# EAGLE library part MC11 (library con-phoenix-381_l)
Mini-Combicon 3.81mm horizontal 11-polig (ohne Gegenstecker)
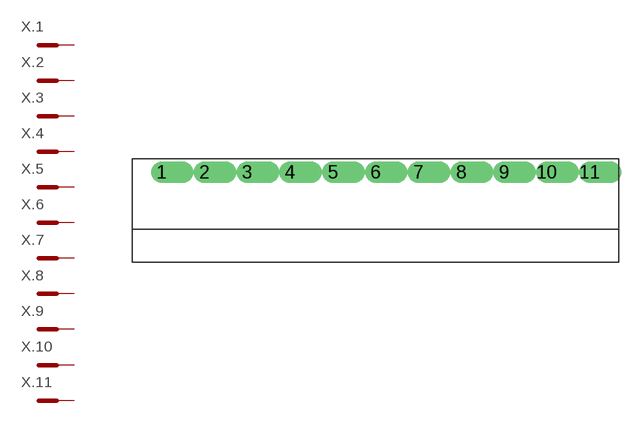
[diagram p8: symbol with the pads of MC11; footprint MC11]

Designator prefix X; gates .1=MCST .2=MCST .3=MCST .4=MCST .5=MCST .6=MCST .7=MCST .8=MCST .9=MCST .10=MCST .11=MCST

## MC11  [MC11]
1  .1:SK  pas
2  .2:SK  pas
3  .3:SK  pas
4  .4:SK  pas
5  .5:SK  pas
6  .6:SK  pas
7  .7:SK  pas
8  .8:SK  pas
9  .9:SK  pas
10  .10:SK  pas
11  .11:SK  pas

## Footprint MC11 (pad centres in mm)
Mini-Combicon 3.81mm horizontal 11-polig (ohne Gegenstecker)
drill 1.27 offset: 1 -19.05,0; 2 -15.24,0; 3 -11.43,0; 4 -7.62,0; 5 -3.81,0; 6 0,0; 7 3.81,0; 8 7.62,0; 9 11.43,0; 10 15.24,0; 11 19.05,0